# EAGLE library part BCR108S (library digital-transistors)
Dual NPN Silicon Digital Transistor 50V 0,1A 0,25W
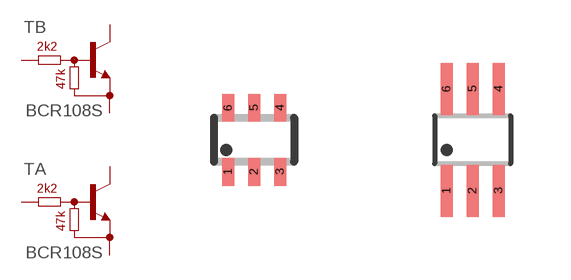
[diagram p13: symbol with the pads of SOT363_INFINEON; footprints SOT363_INFINEON, SOT363-W_INFINEON]

Designator prefix T; gates A=DIGITRANS-NPN-2K2-47K B=DIGITRANS-NPN-2K2-47K

## BCR108S  [SOT363_INFINEON]
1  A:E  pas
2  A:B  pas
3  B:C  pas
4  B:E  pas
5  B:B  pas
6  A:C  pas

## BCR108S-W  [SOT363-W_INFINEON]
Pads as for SOT363_INFINEON

## Footprint SOT363_INFINEON (pad centres in mm)
Small Outline Transistor; 6 leads 2.0mm*2.1mm, Reflow soldering INFINEON, www.infineon.com/cmc_upload/0/000/010/257/eh_db_5b.pdf
smd 0.3 x 0.7: 1 -0.65,-0.8; 2 0,-0.8; 3 0.65,-0.8; 4 0.65,0.8; 5 0,0.8; 6 -0.65,0.8

## Footprint SOT363-W_INFINEON (pad centres in mm)
Small Outline Transistor; 6 leads, 2.0mm*2.1mm, wave soldering INFINEON, http://www.infineon.com/upload/Image/Packages/gps05604.gif INFINEON, http://www.infineon.com/upload/Image/Packages/hlg05827.gif
smd 0.3 x 1.3: 1 -0.65,-1.275; 2 0,-1.275; 3 0.65,-1.275; 4 0.65,1.275; 5 0,1.275; 6 -0.65,1.275